# Altium footprint library Pcblib_20110825.Pcblib: 408 footprints (part 13 of 26)
Each footprint in its own frame and in the unit in brackets; x right, y up, seen from the top. Pads: shape width x height; smd on the part's side, far side on the other; paste and mask are expansions set on the pad; w line width, h text height; cw(c..) or ccw(c..) is an arc to the next point about the centre after c.
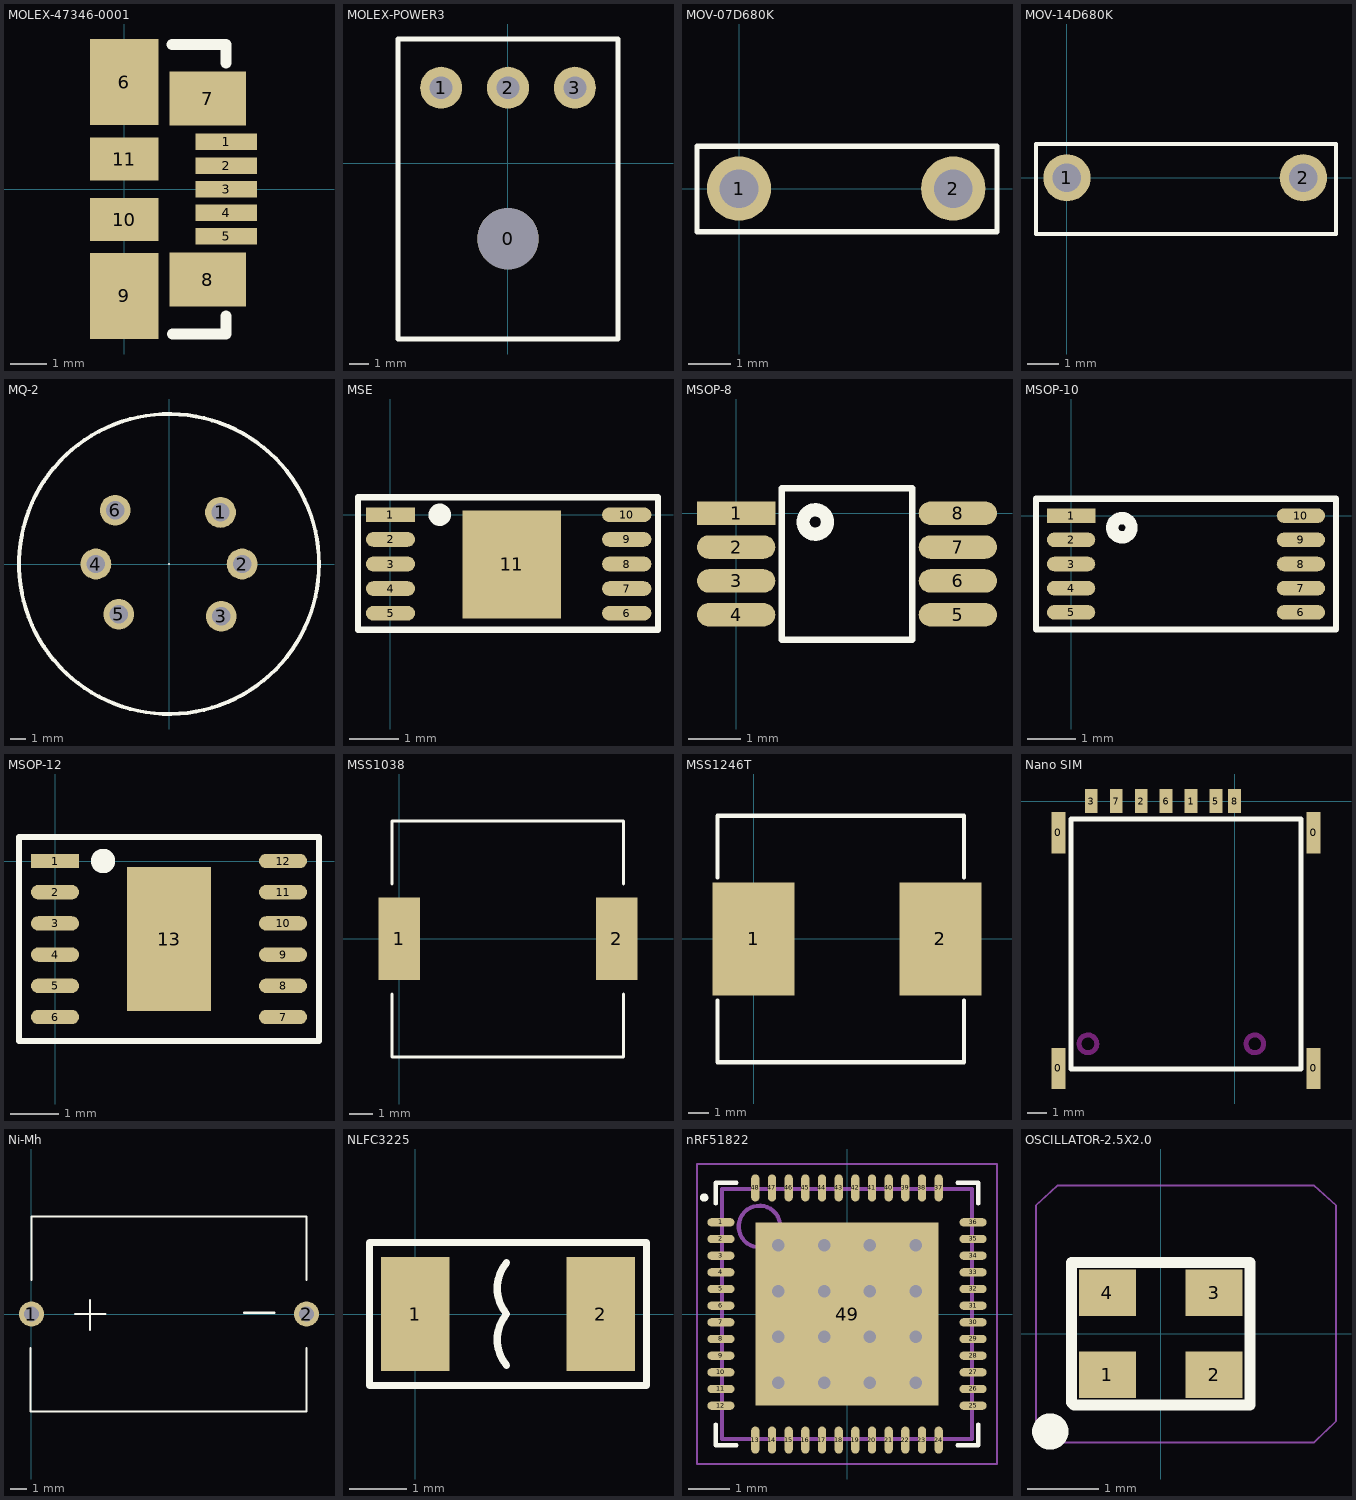
[diagram p12: the footprints below, top view; thin cyan lines are the x and y axes]

## MOLEX-47346-0001 [mil]
pads (11):
  rect 67x18 smd: 1(111,52) 2(111,26) 3(111,0) 4(111,-25.59) 5(111,-51.18)
  rect 75x94 smd: 6(0,117) 9(0,-116.14)
  rect 83x59 smd: 7(91,99) 8(91,-98.43)
  rect 75x47 smd: 10(0,-32.97) 11(0,33)
TopOverlay:
  lines w12: 52,158 111,158 111,138 ; 52.52,-157.48 111,-157.48 111,-137.8
Mechanical16:
  lines w1: 107,150 111,146

## MOLEX-POWER3 [mm]
pads (4):
  round 3.2 hole 3.2: 0(0,-3.95)
  round 2.2 hole 1.2: 1(-3.5,3.95) 2(0,3.95) 3(3.5,3.95)
TopOverlay:
  lines w0.254: -5.75,-9.2 5.75,-9.2 5.75,6.5 -5.75,6.5 -5.75,-9.2

## MOV-07D680K [mm]
pads (2):
  round 1.5 hole 0.9: 1(0,0) 2(5,0)
TopOverlay:
  lines w0.127: -0.98,-1.009 6.02,-1.009 6.02,0.991 -0.98,0.991 -0.98,-1.009

## MOV-14D680K [mm]
pads (2):
  round 1.5 hole 0.9: 1(0,0) 2(7.5,0)
TopOverlay:
  lines w0.127: -0.98,-1.778 8.534,-1.778 8.534,1.067 -0.98,1.067 -0.98,-1.778

## MQ-2 [mm]
pads (6):
  round 2 hole 1.2: 1(3.348,3.352) 2(4.75,0) 3(3.402,-3.402) 4(-4.75,0) 5(-3.264,-3.264) 6(-3.5,3.5)
TopOverlay:
  circle w0.254: c0,0 r9.75
  lines w0.127: 0,0 0,0.005 0,0

## MSE [mm]
pads (11):
  rect 1x0.3 smd: 1(0,0)
  oval 1x0.3 smd: 2(0,-0.5) 3(0,-1) 4(0,-1.5) 5(0,-2) 6(4.8,-2) 7(4.8,-1.5) 8(4.8,-1) 9(4.8,-0.5) 10(4.8,0)
  rect 2x2.2 smd: 11(2.46,-1.01)
TopOverlay:
  circle w0.254: c1,0 r0.1
  lines w0.127: -0.66,-2.337 5.436,-2.337 5.436,0.356 -0.66,0.356 -0.66,-2.337

## MSOP-8 [mm]
pads (8):
  rect 1.5x0.45 smd: 1(0,0)
  oval 1.5x0.45 smd: 2(0,-0.65) 3(0,-1.3) 4(0,-1.95) 5(4.25,-1.95) 6(4.25,-1.3) 7(4.25,-0.65) 8(4.25,0)
TopOverlay:
  circle w0.254: c1.516,-0.17 r0.234
  lines w0.127: 3.375,-2.425 3.375,0.475 0.875,0.475 0.875,-2.425 3.36,-2.425 3.375,-2.41

## MSOP-10 [mm]
pads (10):
  rect 1x0.3 smd: 1(0,0)
  oval 1x0.3 smd: 2(0,-0.5) 3(0,-1) 4(0,-1.5) 5(0,-2) 6(4.75,-2) 7(4.75,-1.5) 8(4.75,-1) 9(4.75,-0.5) 10(4.75,0)
TopOverlay:
  circle w0.254: c1.05,-0.25 r0.2
  lines w0.127: -0.725,-2.35 -0.725,0.35 5.475,0.35 5.475,-2.35 -0.725,-2.35

## MSOP-12 [mm]
pads (13):
  rect 1x0.3 smd: 1(0,0)
  oval 1x0.3 smd: 2(0,-0.65) 3(0,-1.3) 4(0,-1.95) 5(0,-2.6) 6(0,-3.25) 7(4.75,-3.25) 8(4.75,-2.6) 9(4.75,-1.95) 10(4.75,-1.3) 11(4.75,-0.65) 12(4.75,0)
  rect 1.75x3 smd: 13(2.375,-1.625)
TopOverlay:
  circle w0.254: c1,0 r0.127
  lines w0.127: -0.75,-3.75 -0.75,0.5 5.5,0.5 5.5,-3.75 -0.75,-3.75

## MSS1038 [mm]
pads (2):
  rect 1.78x3.56 smd: 1(0,0) 2(9.4,0)
TopOverlay:
  lines w0.127: -0.305,-2.373 -0.305,-5.105 9.695,-5.105 9.695,-2.373 ; -0.305,2.362 -0.305,5.095 9.695,5.095 9.695,2.362

## MSS1246T [mm]
height 11.1
pads (2):
  rect 4x5.5 smd: 1(0,0) 2(9.1,0)
TopOverlay:
  lines w0.2: -1.75,-3 -1.75,-6 10.25,-6 10.25,-3 ; -1.75,3 -1.75,6 10.25,6 10.25,3

## Nano SIM [mm]
pads (11):
  rect 0.7x2.1 smd: 0(-8.97,-13.615) 0(-8.97,-1.615) 0(4.02,-13.615) 0(4.02,-1.615)
  rect 0.65x1.23 smd: 1(-2.22,0) 2(-4.76,0) 3(-7.3,0) 5(-0.95,0) 6(-3.49,0) 7(-6.03,0) 8(0,0)
TopOverlay:
  lines w0.254: -8.331,-13.64 -8.331,-0.914 3.378,-0.914 3.378,-13.64 -8.331,-13.64
KeepOutLayer:
  circle w0.254: c-7.47,-12.365 r0.45
  circle w0.254: c1.03,-12.365 r0.45

## Ni-Mh [mm]
pads (2):
  round 1.5 hole 0.9: 1(0,0) 2(16.5,0)
TopOverlay:
  lines w0.127: -0.051,-2.032 -0.051,-5.85 16.5,-5.85 16.5,-2.032 ; -0.051,-0.051 0,0 ; -0.025,0 0,0.025 ; 0,2.032 0,5.85 16.5,5.85 16.5,2.032 ; 2.616,0 4.445,0 ; 3.505,-0.965 3.505,0.838 ; 12.751,0.076 14.58,0.076

## NLFC3225 [mm]
pads (2):
  rect 1.2x2 smd: 1(0,0) 2(3.25,0)
TopOverlay:
  lines w0.127: 1.6,-0.9 cw(c2.136,-0.45) 1.6,0 cw(c2.136,0.45) 1.6,0.9 ; -0.8,-1.25 4.05,-1.25 4.05,1.25 -0.8,1.25 -0.8,-1.25

## nRF51822 [mm] "QFN, 48-Leads, Body 6.00x6.00mm, Pitch 0.40mm, Thermal Pad 4.60x4.60mm, IPC Medium Density"
height 0.85
pads (49):
  oval 0.65x0.2 smd: 1(-3.025,2.2) 2(-3.025,1.8) 3(-3.025,1.4) 4(-3.025,1) 5(-3.025,0.6) 6(-3.025,0.2) 7(-3.025,-0.2) 8(-3.025,-0.6) 9(-3.025,-1) 10(-3.025,-1.4) 11(-3.025,-1.8) 12(-3.025,-2.2) 25(3.025,-2.2) 26(3.025,-1.8) 27(3.025,-1.4) 28(3.025,-1) 29(3.025,-0.6) 30(3.025,-0.2) 31(3.025,0.2) 32(3.025,0.6) 33(3.025,1) 34(3.025,1.4) 35(3.025,1.8) 36(3.025,2.2)
  oval 0.2x0.65 smd: 13(-2.2,-3.025) 14(-1.8,-3.025) 15(-1.4,-3.025) 16(-1,-3.025) 17(-0.6,-3.025) 18(-0.2,-3.025) 19(0.2,-3.025) 20(0.6,-3.025) 21(1,-3.025) 22(1.4,-3.025) 23(1.8,-3.025) 24(2.2,-3.025) 37(2.2,3.025) 38(1.8,3.025) 39(1.4,3.025) 40(1,3.025) 41(0.6,3.025) 42(0.2,3.025) 43(-0.2,3.025) 44(-0.6,3.025) 45(-1,3.025) 46(-1.4,3.025) 47(-1.8,3.025) 48(-2.2,3.025)
  rect 4.4x4.4 smd: 49(0,0)
via 1.65,-1.65 diameter 0.6 hole 0.3
via 0.55,-1.65 diameter 0.6 hole 0.3
via -0.55,-1.65 diameter 0.6 hole 0.3
via 1.65,-0.55 diameter 0.6 hole 0.3
via -0.55,-0.55 diameter 0.6 hole 0.3
via 1.65,0.55 diameter 0.6 hole 0.3
via 0.55,0.55 diameter 0.6 hole 0.3
via -0.55,0.55 diameter 0.6 hole 0.3
via 0.55,-0.55 diameter 0.6 hole 0.3
via -1.65,-1.65 diameter 0.6 hole 0.3
via -1.65,-0.55 diameter 0.6 hole 0.3
via -1.65,0.55 diameter 0.6 hole 0.3
via 1.65,1.65 diameter 0.6 hole 0.3
via 0.55,1.65 diameter 0.6 hole 0.3
via -0.55,1.65 diameter 0.6 hole 0.3
via -1.65,1.65 diameter 0.6 hole 0.3
TopOverlay:
  circle w0.1: c-3.429,2.794 r0.05
  lines w0.1: -3.15,-2.65 -3.15,-3.15 -2.65,-3.15 ; -3.15,2.65 -3.15,3.15 -2.65,3.15 ; 2.65,-3.15 3.15,-3.15 3.15,-2.65 ; 2.65,3.15 3.15,3.15 3.15,2.65
Mechanical13:
  circle w0.1: c-2.1,2.1 r0.5
  lines w0.1: -3,-3 3,-3 3,3 -3,3 -3,-3
Mechanical15:
  lines w0.05: -3.6,-3.6 3.6,-3.6 3.6,3.6 -3.6,3.6 -3.6,-3.6
  lines w0.1: -0.5,0 0.5,0 ; 0,-0.5 0,0.5
3D body: height 0.85, standoff 0.02, extent -3,-3 3,3

## OSCILLATOR-2.5X2.0 [mm] "OSCILLATOR-3.2X2.5"
pads (4):
  rect 0.8x0.65 smd: 1(-0.75,-0.575) 2(0.75,-0.575) 3(0.75,0.575) 4(-0.75,0.575)
TopOverlay:
  circle w0.305: c-1.549,-1.372 r0.102
  lines w0.152: -1.25,-0.965 -1.25,1 1.25,1 1.25,-1 -1.215,-1 -1.25,-0.965
Mechanical16:
  lines w0.025: -1.75,-1.225 -1.75,1.799 -1.45,2.078 2.153,2.078 2.458,1.799 2.458,-1.225 2.153,-1.525 -1.45,-1.525 -1.75,-1.225